# Altium footprint library FETs.PcbLib: 1 footprints
Each footprint in its own frame and in the unit in brackets; x right, y up, seen from the top. Pads: shape width x height; smd on the part's side, far side on the other; paste and mask are expansions set on the pad; w line width, h text height; cw(c..) or ccw(c..) is an arc to the next point about the centre after c.
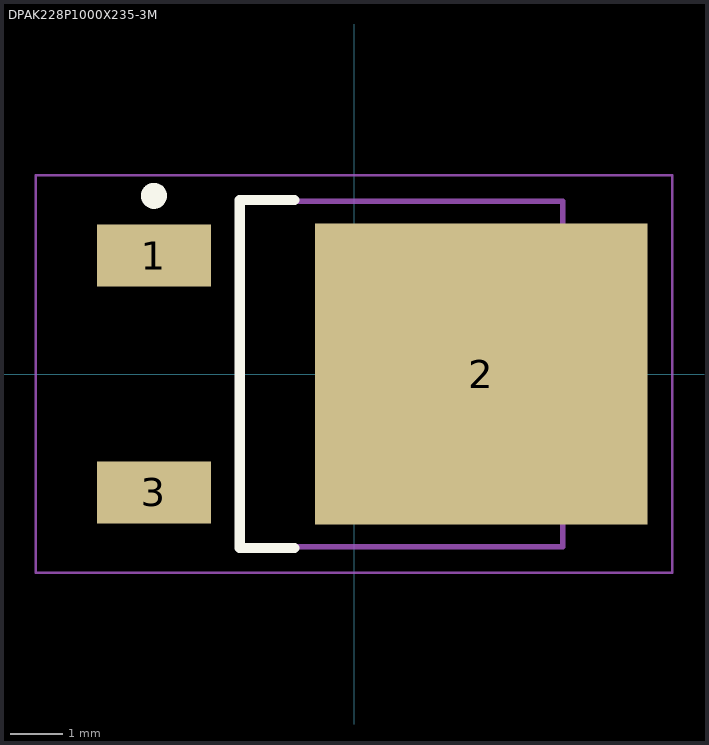
[diagram p0: the footprint, top view; thin cyan lines are the x and y axes]

## DPAK228P1000X235-3M [mm] "D-PAK, 3-Pads, Body 6.21x6.69mm (max), IPC Low Density"
height 2.35
pads (3):
  rect 2.2x1.2 smd paste-0.05: 1(-3.85,2.28) 3(-3.85,-2.28)
  rect 6.4x5.8 smd paste-1000: 2(2.45,0)
Top Overlay:
  circle w0.25: c-3.85,3.43 r0.125
  lines w0.2: -1.15,-3.35 -2.2,-3.35 -2.2,3.35 -1.15,3.35
Top Paste:
  rectangle: -0.7,-2.85 2.3,-0.15
  rectangle: 2.6,-2.85 5.6,-0.15
  rectangle: 2.6,0.15 5.6,2.85
  rectangle: -0.7,0.15 2.3,2.85
Top Assembly:
  lines w0.1: -2.2,-3.325 4.02,-3.325 4.02,3.325 -2.2,3.325 -2.2,-3.325
Top Courtyard:
  lines w0.05: -6.125,-3.825 6.125,-3.825 6.125,3.825 -6.125,3.825 -6.125,-3.825
  lines w0.1: -0.5,0 0.5,0 ; 0,-0.5 0,0.5
3D body "DPAK228P1000X235-3M.step": height 2.35, standoff 0, extent -4.235,-3.325 5.77,3.325